# Altium schematic symbol library Time_Module.SchLib: 1 symbol
Pins are listed as number, name and electrical type; pins without a type are passive.

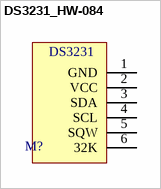
[diagram p0: symbol DS3231_HW-084]

## DS3231_HW-084
designator M?
DS3231 Time Module , HW-084; Package: 6 Pin TH; ERP: *; Manufacturer 1: *; Manufacturer Part Number 1: *; Supplier 1: *; Supplier Part Number 1: *; Value: HW-084
footprint DS3231_HW-084
pins: 1 GND, 2 VCC, 3 SDA, 4 SCL, 5 SQW, 6 32K
text: DS3231